# EAGLE library part ILI9341_LCD (library RobThePyro)
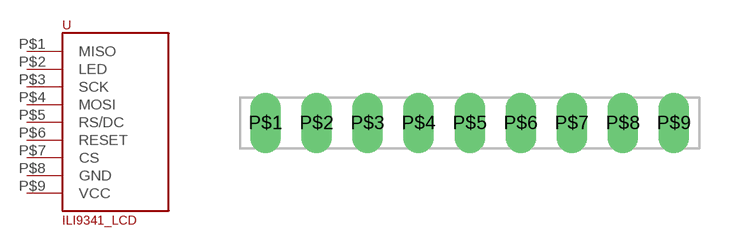
[diagram p7: symbol with the pads of SIL1X9; footprint SIL1X9]

Designator prefix -

## ILI9341_LCD  [SIL1X9]
P$1  MISO
P$2  LED
P$3  SCK
P$4  MOSI
P$5  RS/DC
P$6  RESET
P$7  CS
P$8  GND
P$9  VCC

## Footprint SIL1X9 (pad centres in mm)
drill 1 long: P$1 -10.16,0; P$2 -7.62,0; P$3 -5.08,0; P$4 -2.54,0; P$5 0,0; P$6 2.54,0; P$7 5.08,0; P$8 7.62,0; P$9 10.16,0